# EAGLE library part SD-500075-008 (library con-molex)
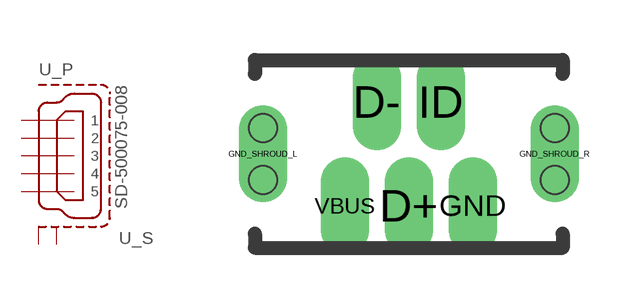
[diagram p226: symbol with the pads of SD-500075-008; footprint SD-500075-008]

Designator prefix -; gates _P=MINI_USB _S=USB_SHIELD

## SD-500075-008SD-500075-008  [SD-500075-008]
D+  _P:3  in
D-  _P:2  in
GND  _P:5  in
GND_SHROUD_L  _S:S1  pas
GND_SHROUD_R  _S:S2  pas
ID  _P:4  in
VBUS  _P:1  in

## Footprint SD-500075-008 (pad centres in mm)
drill 0.7 pad 1.016 long: D+ 0,-1.3; D- -0.8,1.3; GND 1.6,-1.3; ID 0.8,1.3; VBUS -1.6,-1.3
drill 0.7 long: GND_SHROUD_L -3.65,0; GND_SHROUD_R 3.65,0
hole 0.7 at -3.65,0.65
hole 0.7 at -3.65,-0.65
hole 0.7 at 3.65,0.65
hole 0.7 at 3.65,-0.65